# Altium footprint library Footprint_SMT_Relays.PcbLib: 1 footprints
Each footprint in its own frame and in the unit in brackets; x right, y up, seen from the top. Pads: shape width x height; smd on the part's side, far side on the other; paste and mask are expansions set on the pad; w line width, h text height; cw(c..) or ccw(c..) is an arc to the next point about the centre after c.
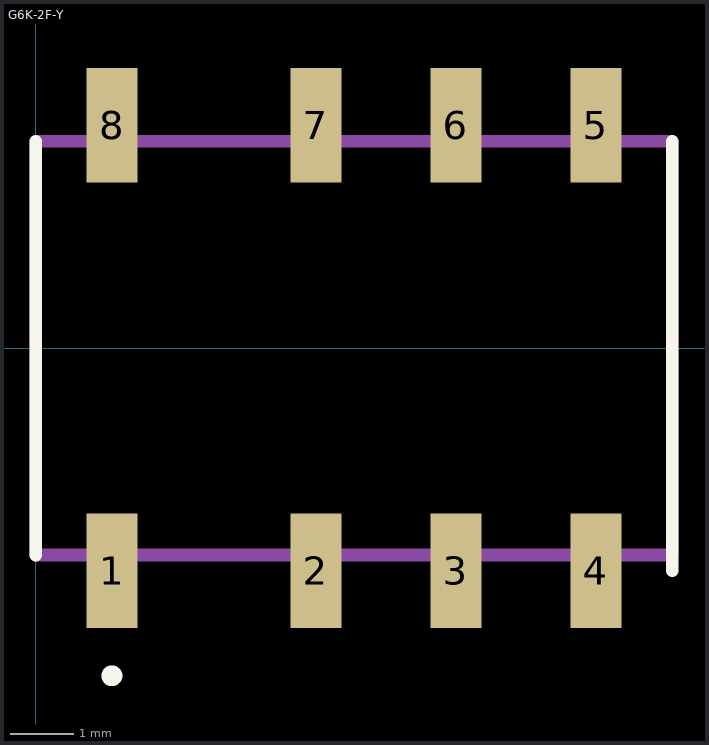
[diagram p0: the footprint, top view; thin cyan lines are the x and y axes]

## G6K-2F-Y [mm]
pads (8):
  rect 0.8x1.8 smd: 1(1.2,-3.5) 2(4.4,-3.5) 3(6.6,-3.5) 4(8.8,-3.5) 5(8.8,3.5) 6(6.6,3.5) 7(4.4,3.5) 8(1.2,3.5)
Top Overlay:
  circle w0.2: c1.195,-5.149 r0.064
  lines w0.2: 0,-3.25 0,3.25 ; 10,-3.5 10,3.25
Mechanical 15:
  lines w0.2: 0,-3.25 0,3.25 10,3.25 10,-3.25 0,-3.25
3D body "G6K_2F_Y.step": height 5.2, standoff 0, extent 0.008,-3.671 10.008,4.129